# EAGLE library part RELAY-DPDT-2 (library QuantumOptics)
Relay, DPDT, generic symbol, no package, symbol is smaller than "RELAY-DPDT".
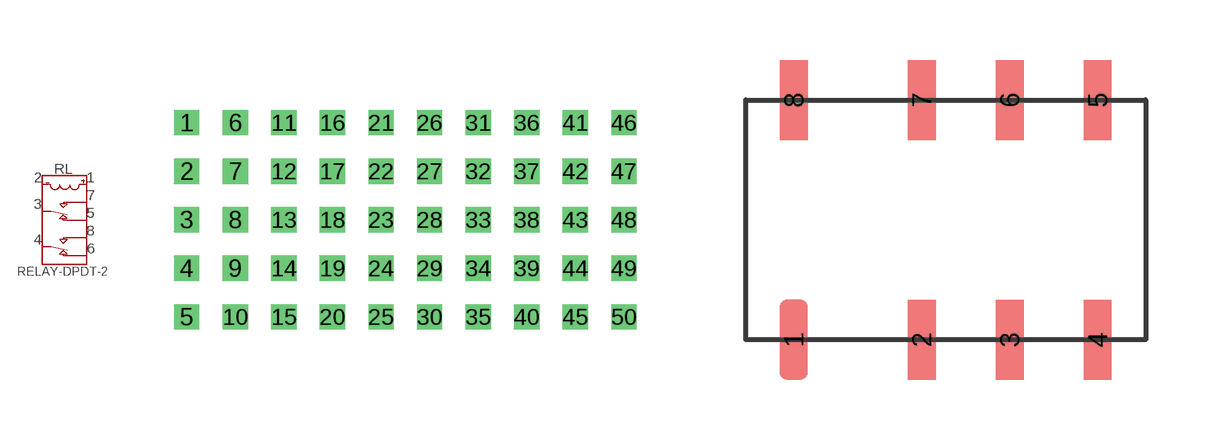
[diagram p96: symbol with the pads of PLACEHOLDER; footprints PLACEHOLDER, RELAY,DPDT,TE_IM_SERIES]

Designator prefix RL

## RELAY-DPDT-2  [PLACEHOLDER]
1  COIL+
2  COIL-
3  COM1
4  COM2
5  NC1
6  NC2
7  NO1
8  NO2

## RELAY-DPDT-2-TE_IM_SERIES(GULL-WING)  [RELAY,DPDT,TE_IM_SERIES]
1  COIL+
2  NC1
3  COM1
4  NO1
5  NO2
6  COM2
7  NC2
8  COIL-

## Footprint PLACEHOLDER (pad centres in mm)
Non-existant decal, a Placeholder, used to make a part which does not need a package but Eagle demands something, e.g. if making schematic only and don't care about PCB. Pins are labeled "1" through "50".
drill 0.813 square: 1 -7.62,10.16; 2 -7.62,7.62; 3 -7.62,5.08; 4 -7.62,2.54; 5 -7.62,0; 6 -5.08,10.16; 7 -5.08,7.62; 8 -5.08,5.08; 9 -5.08,2.54; 10 -5.08,0; 11 -2.54,10.16; 12 -2.54,7.62; 13 -2.54,5.08; 14 -2.54,2.54; 15 -2.54,0; 16 0,10.16; 17 0,7.62; 18 0,5.08; 19 0,2.54; 20 0,0; 21 2.54,10.16; 22 2.54,7.62; 23 2.54,5.08; 24 2.54,2.54; 25 2.54,0; 26 5.08,10.16; 27 5.08,7.62; 28 5.08,5.08; 29 5.08,2.54; 30 5.08,0; 31 7.62,10.16; 32 7.62,7.62; 33 7.62,5.08; 34 7.62,2.54; 35 7.62,0; 36 10.16,10.16; 37 10.16,7.62; 38 10.16,5.08; 39 10.16,2.54; 40 10.16,0; 41 12.7,10.16; 42 12.7,7.62; 43 12.7,5.08; 44 12.7,2.54; 45 12.7,0; 46 15.24,10.16; 47 15.24,7.62; 48 15.24,5.08; 49 15.24,2.54; 50 15.24,0

## Footprint RELAY,DPDT,TE_IM_SERIES (pad centres in mm)
Relay, DPDT, signal, T.E. IM series with gull wings such as IM06GR.
smd 0.7 x 2: 1 -3.8,-3; 2 -0.6,-3; 3 1.6,-3; 4 3.8,-3; 5 3.8,3; 6 1.6,3; 7 -0.6,3; 8 -3.8,3